# EAGLE library part LM22678TJE-ADJ_NOPB (library other)
5A SIMPLE SWITCHER, Step-Down Voltage Regulator with Precision Enable Source: Datasheet <http://www.ti.com/lit/ds/symlink/lm22678.pdf>
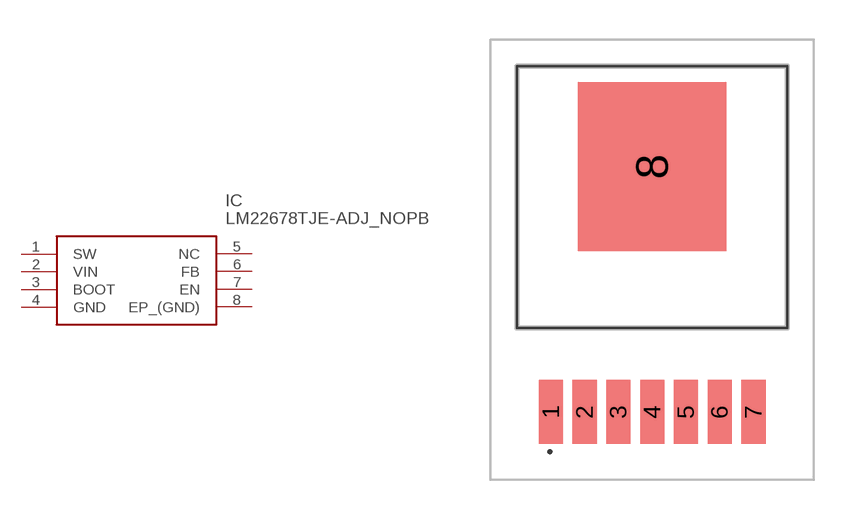
[diagram p10: symbol with the pads of LM22678TJEADJNOPB; footprint LM22678TJEADJNOPB]

Designator prefix IC

## LM22678TJE-ADJ_NOPB (ARROW_PART_NUMBER: LM22678TJE-ADJ/NOPB; ARROW_PRICE/STOCK: https://www.arrow.com/en/products/lm22678tje-adjnopb/texas-instruments; DESCRIPTION: 5A SIMPLE SWITCHER, Step-Down Voltage Regulator with Precision Enable; HEIGHT: 2mm; MANUFACTURER_NAME: Texas Instruments; MANUFACTURER_PART_NUMBER: LM22678TJE-ADJ/NOPB; RS_PART_NUMBER: 1625056; RS_PRICE/STOCK: http://uk.rs-online.com/web/p/products/1625056)  [LM22678TJEADJNOPB]
1  SW  pwr
2  VIN  pwr
3  BOOT
4  GND  pwr
5  NC  nc
6  FB  in
7  EN  in
8  EP_(GND)  pwr

## Footprint LM22678TJEADJNOPB (pad centres in mm)
NDR0007A
smd 0.91 x 2.41: 1 -3.81,-5.725; 2 -2.54,-5.725; 3 -1.27,-5.725; 4 0,-5.725; 5 1.27,-5.725; 6 2.54,-5.725; 7 3.81,-5.725
smd 5.59 x 6.35: 8 0,3.5